# Altium footprint library MolexMicroFit3_2POS_RA.PcbLib: 1 footprints
Each footprint in its own frame and in the unit in brackets; x right, y up, seen from the top. Pads: shape width x height; smd on the part's side, far side on the other; paste and mask are expansions set on the pad; w line width, h text height; cw(c..) or ccw(c..) is an arc to the next point about the centre after c.
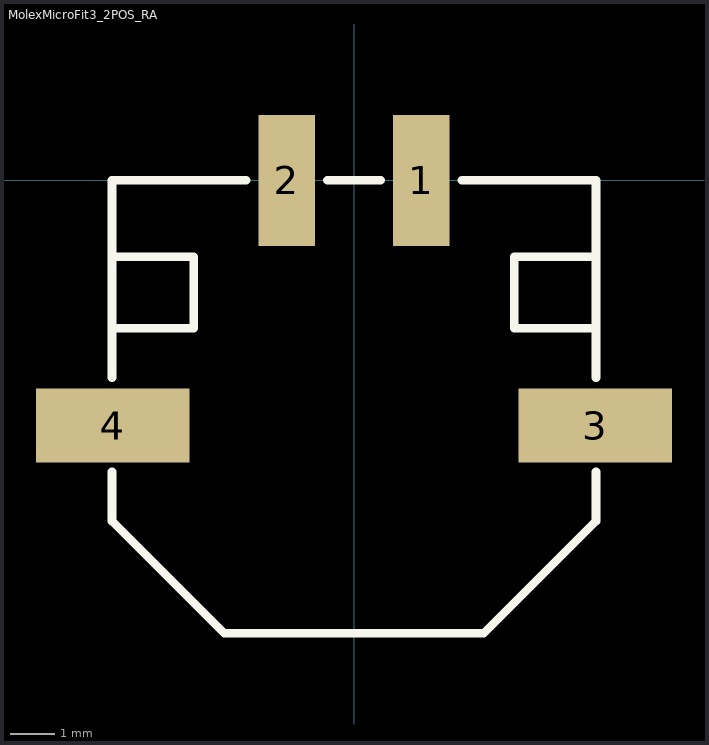
[diagram p0: the footprint, top view; thin cyan lines are the x and y axes]

## MolexMicroFit3_2POS_RA [mm]
pads (4):
  rect 1.27x2.92 smd: 1(1.5,0) 2(-1.5,0)
  rect 3.43x1.65 smd: 3(5.385,-5.47) 4(-5.385,-5.47)
Top Overlay:
  lines w0.191: -5.4,-6.5 -5.4,-7.6 -2.9,-10.1 2.9,-10.1 5.4,-7.6 5.4,-6.5 ; -5.4,-4.4 -5.4,0 -2.4,0 ; -5.4,-3.3 -3.575,-3.3 ; -5.4,-1.7 -3.575,-1.7 -3.575,-3.3 ; -0.6,0 0.6,0 ; 2.4,0 5.4,0 5.4,-4.4 ; 5.4,-3.3 3.575,-3.3 ; 5.4,-1.7 3.575,-1.7 ; -3.575,-3.3 -3.575,-3.3 ; 3.575,-3.3 3.575,-3.3 ; 3.575,-3.3 3.575,-1.7 ; 3.575,-1.7 3.575,-1.7
3D body: height 0.7, standoff 0, extent 0.4,-3.8 0.4,-3.8
3D body "436500213.stp": height 5.58, standoff -0.1, extent -6.825,-10.05 6.825,0.69